# Altium footprint library NR4030_Inductor.PcbLib: 1 footprints
Each footprint in its own frame and in the unit in brackets; x right, y up, seen from the top. Pads: shape width x height; smd on the part's side, far side on the other; paste and mask are expansions set on the pad; w line width, h text height; cw(c..) or ccw(c..) is an arc to the next point about the centre after c.
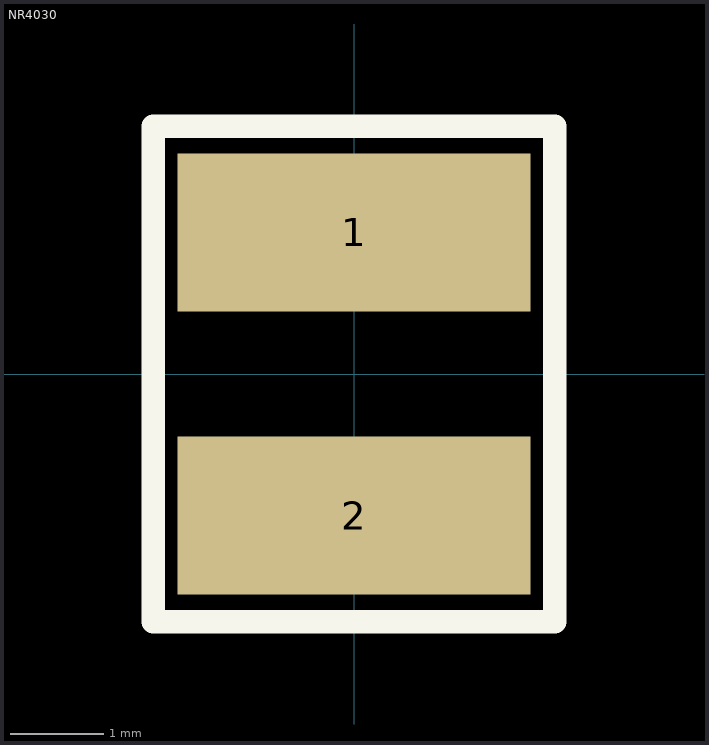
[diagram p0: the footprint, top view; thin cyan lines are the x and y axes]

## NR4030 [mm]
pads (2):
  rect 3.8x1.7 smd: 1(0,1.524) 2(0,-1.524)
Top Overlay:
  lines w0.254: -2.159,-2.667 2.159,-2.667 2.159,2.667 -2.159,2.667 -2.159,-2.667
3D body "NR4030 SMD Magnetic Glue Shielded Power Inductor.STEP": height 3.15, standoff 0.05, extent -2,-2 2,2